# Altium integrated library IC - 74X Series Logic.IntLib: 56 symbols (part 2 of 2)
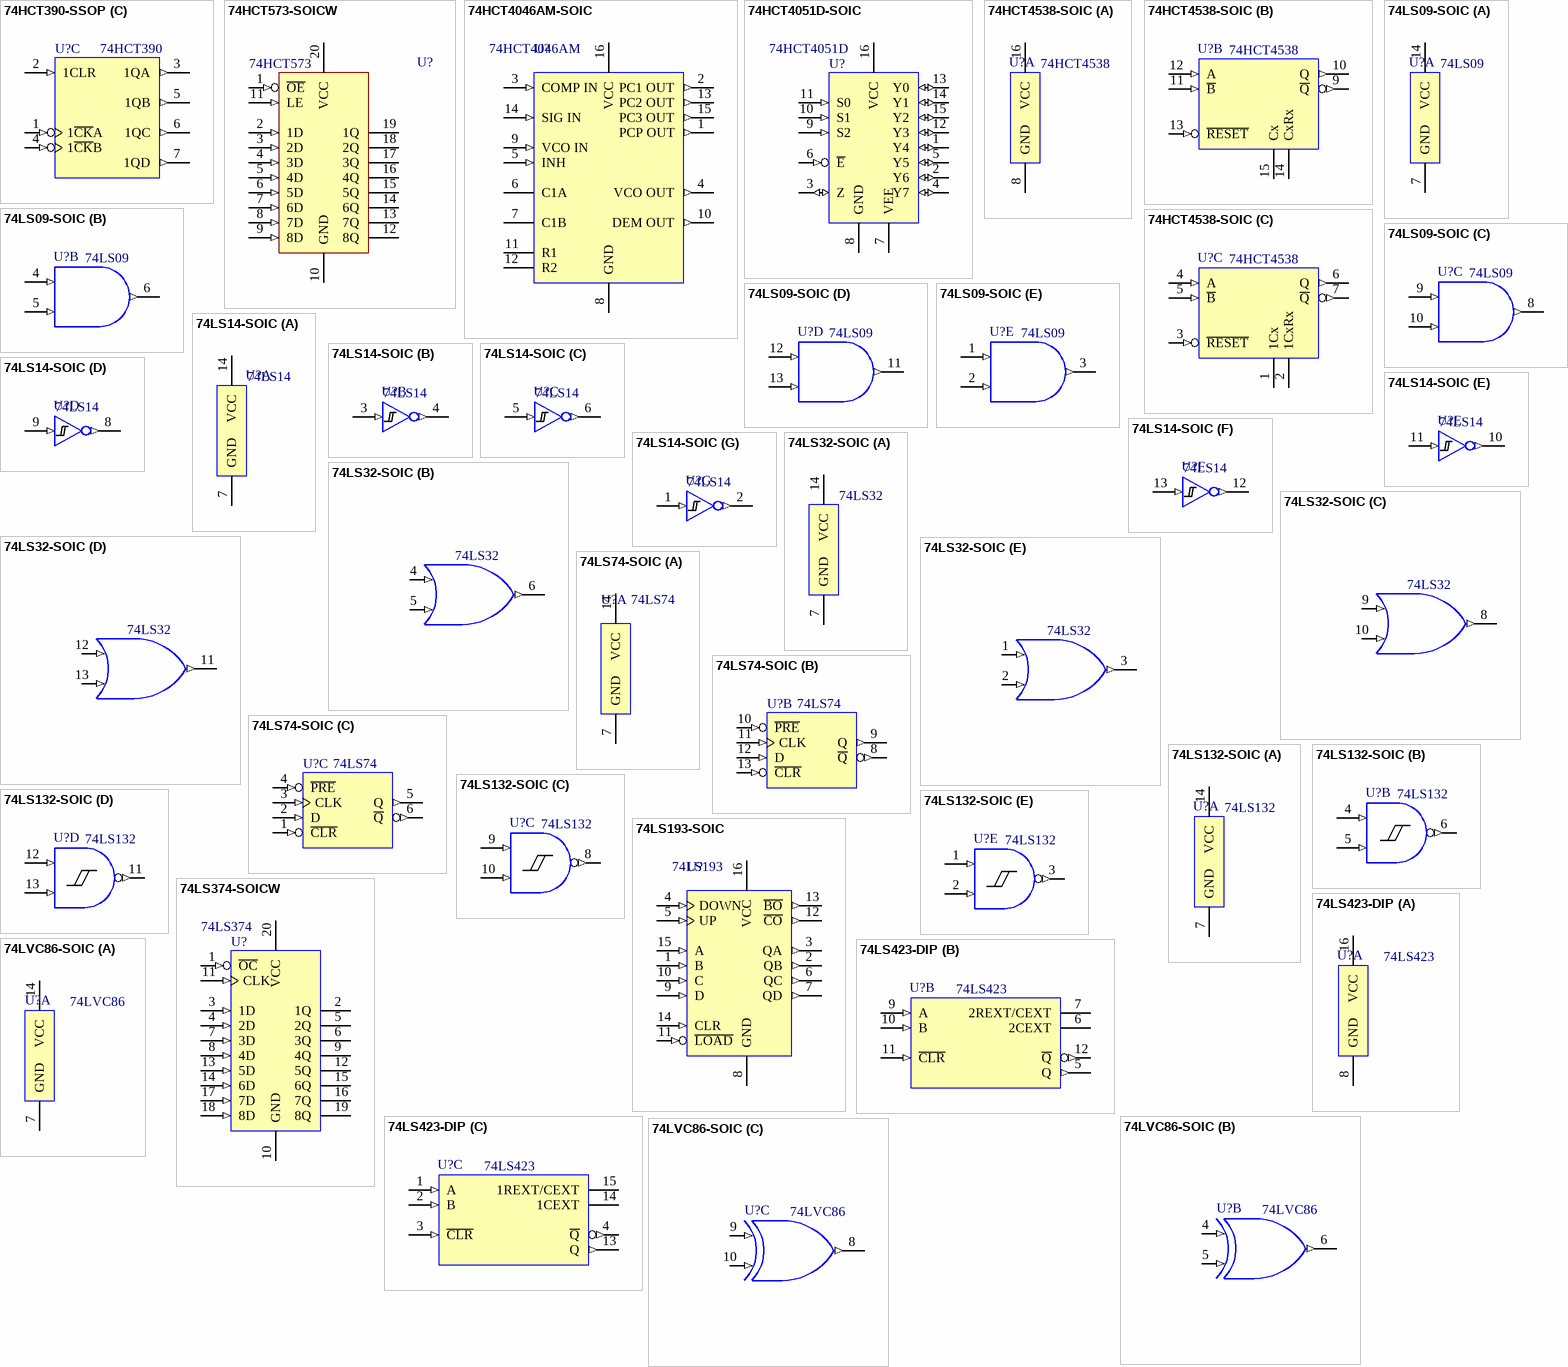
[diagram p5: symbols 74HCT390-SSOP to 74LVC86-SOIC]

## 74HCT4046AM-SOIC
designator U?, comment 74HCT4046AM
Phase Lock Loop with Voltage Controlled Oscillator (38MHz Max); Manufacturer: Texas Instruments/Fairchild Semiconductor/NXP Semiconductor; Supply Voltage: 4.5V~5.5V; Logic Level (High): -; Logic Level (Low): -; Logic Type: Phase Lock Loop; Max Propagation Delay: -; Output Current (High/Low): -; PackageDescription: SOIC, 16-Leads, Body 9.90x3.90mm, Pitch 1.27mm, IPC Low Density; Package Reference: SOIC-16; Supplier 1: Newark; Supplier Part Number 1: 34K2415; Supplier 2: Digi-Key; Supplier Part Number 2: 296-9275-5-ND; Supplier 3: Mouser; Supplier Part Number 3: 595-CD74HCT4046AM; ComponentLink1Description: Datasheet; Part Number: 74HCT4046AM
footprint SOIC-16 (SOIC, 16-Leads, Body 9.90x3.90mm, Pitch 1.27mm, IPC Low Density)
3D model SOIC-16 (PCB3D Model)
pins: 1 PCP OUT (out) "Phase Comparator Pulse Output", 2 PC1 OUT (out) "Phase Comparator 1 Output", 3 COMP IN (in) "Comparator Input", 4 VCO OUT (out) "VCO Output", 5 INH (in) "Inhibit Input", 6 C1A "Capacitor C1 connection A", 7 C1B "Capacitor C1 connection B", 8 GND (power), 9 VCO IN (in) "VCO Input", 10 DEM OUT (out) "Demodulator Output", 11 R1 "Resistor R1 Connection", 12 R2 "Resistor R2 Connection", 13 PC2 OUT (out) "Phase Comparator 2 Output", 14 SIG IN (in) "Signal Input", 15 PC3 OUT (out) "Phase Comparator 3 Output", 16 VCC (power)

## 74HCT4051D-SOIC
designator U?, comment 74HCT4051D
Phase Lock Loop with Voltage Controlled Oscillator (38MHz Max); Manufacturer: NXP Semiconductors; Logic Level (High): 1.2~4.7V; Logic Level (Low): 0.8V~4.3V; Logic Type: Multiplexer/Demultiplexer; Supply Voltage: 4.5V~5.5V/ ±1V~5.5V; Circuit: 1 x 8:1; Max Propagation Delay: -; Output Current (High/Low): -; PackageDescription: SOIC, 16-Leads, Body 9.90x3.90mm, Pitch 1.27mm, IPC Low Density; Package Reference: SOIC-16; Supplier 1: Digi-Key; Supplier Part Number 1: 568-1548-1-ND; Supplier 2: Newark; Supplier Part Number 2: 99K0559; Supplier 3: Mouser; Supplier Part Number 3: 771-74HCT4051D-T; Part Number: 74HCT4051D; ComponentLink1Description: Datasheet
footprint SOIC-16 (SOIC, 16-Leads, Body 9.90x3.90mm, Pitch 1.27mm, IPC Low Density)
3D model SOIC-16 (PCB3D Model)
pins: 1 Y4 (io) "Independent input/output Y4", 2 Y6 (io) "Independent input/output Y6", 3 Z (io) "Common Output/Input", 4 Y7 (io) "Independent input/output Y7", 5 Y5 (io) "Independent input/output Y5", 6 ~{E} (in) "Enable Input (active low)", 7 VEE (power), 8 GND (power), 9 S2 (in) "Select Input", 10 S1 (in) "Select Input", 11 S0 (in) "Select input", 12 Y3 (io) "Independent input/output Y3", 13 Y0 (io) "Independent input/output Y0", 14 Y1 (io) "Independent input/output Y1", 15 Y2 (io) "Independent input/output Y2", 16 VCC (power)

## 74HCT4538-SOIC
designator U?, comment 74HCT4538
Retriggerable monostable multivibrator with reset.  2 Element; Manufacturer: Texas Instruments/Fairchild Semiconductor/NXP Semiconductor; Supply Voltage: 4.5V~5.5V; Logic Level (Low): 0.8V (Max); Logic Level (High): 2.0V (Min); Max Propagation Delay: 23nS at 5V; Output Current (High/Low): 4mA/4mA; Logic Type: Monostable Multivibrator; PackageDescription: SOIC, 16-Leads, Body 9.90x3.90mm, Pitch 1.27mm, IPC Low Density; Package Reference: SOIC-16; Supplier 1: Mouser; Supplier Part Number 1: 595-CD74HCT4538M; Supplier 2: Newark; Supplier Part Number 2: 66F5423; Supplier 3: Digi-Key; Supplier Part Number 3: 296-9286-5-ND; Part Number: 74HCT4538; ComponentLink1Description: Datasheet
footprint SOIC-16 (SOIC, 16-Leads, Body 9.90x3.90mm, Pitch 1.27mm, IPC Low Density)
3D model SOIC-16 (PCB3D Model)
part A pins: 8 GND (power), 16 VCC (power)
part B pins: 9 ~{Q} (out), 10 Q (out), 11 ~{B} (in), 12 A (in), 13 ~{RESET} (in), 14 CxRx, 15 Cx
part C pins: 1 1Cx, 2 1CxRx, 3 ~{RESET} (in), 4 A (in), 5 ~{B} (in), 6 Q (out), 7 ~{Q} (out)

## 74LS09-SOIC
designator U?, comment 74LS09
2-input positive AND gate.  4 Element; Manufacturer: Texas Instruments/Fairchild Semiconductor/NXP Semiconductor; Supply Voltage: 4.75V~5.25V; Logic Level (Low): 0.8V; Logic Level (High): 2V; Max Propagation Delay: 32nS @ 5V; Output Current (High/Low): (Open Collector) -/8mA; Logic Type: AND Gate; PackageDescription: SOIC, 14-Leads, Body 8.65x3.90mm, Pitch 1.27mm, IPC Low Density; Package Reference: *; Supplier 1: Digi-Key; Supplier Part Number 1: 296-3630-5-ND; Supplier 2: Newark; Supplier Part Number 2: 35K0812; Supplier 3: TME; Supplier Part Number 3: 74LS09-SMD; Supplier 4: Mouser; Supplier Part Number 4: 595-SN74LS09D; Part Number: 74LS09; ComponentLink1Description: Datasheet
footprint SOIC-14 (SOIC, 14-Leads, Body 8.65x3.90mm, Pitch 1.27mm, IPC Low Density)
3D model SOIC-14 (PCB3D Model)
part A pins: 7 GND (power), 14 VCC (power)
part B pins: 4 (in), 5 (in), 6 (out)
part C pins: 8 (out), 9 (in), 10 (in)
part D pins: 11 (out), 12 (in), 13 (in)
part E pins: 1 (in), 2 (in), 3 (out)

## 74LS14-SOIC
designator U?, comment 74LS14
Hex Schmitt-Trigger Inverter, 6 Element; Manufacturer: Texas Instruments/Fairchild Semiconductor/NXP Semiconductor; Supply Voltage: 4.75V~5.25V; Max Propagation Delay: 22nS @ 5V; Logic Level (High): 1.5~2V; Logic Level (Low): 0.6~1.1V; Output Current (High/Low): -800uA/16mA; PackageDescription: SOIC, 14-Leads, Body 8.65x3.90mm, Pitch 1.27mm, IPC Low Density; Logic Type: Inverter; Package Reference: SOIC-14; Supplier 1: Digi-Key; Supplier Part Number 1: 296-1212-6-ND; Supplier 2: Mouser; Supplier Part Number 2: 595-SN74LS14DR; Supplier 3: Newark; Supplier Part Number 3: 76K1060; Part Number: 74LS14; ComponentLink1Description: Datasheet
footprint SOIC-14 (SOIC, 14-Leads, Body 8.65x3.90mm, Pitch 1.27mm, IPC Low Density)
3D model SOIC-14 (PCB3D Model)
part A pins: 7 GND (power), 14 VCC (power)
part B pins: 3 A (in), 4 Y (out)
part C pins: 5 A (in), 6 Y (out)
part D pins: 8 Y (out), 9 A (in)
part E pins: 10 Y (out), 11 A (in)
part F pins: 12 Y (out), 13 A (in)
part G pins: 1 A (in), 2 Y (out)

## 74LS32-SOIC
designator U?, comment 74LS32
2 input positive OR gate.  4 Element; Manufacturer: Texas Instruments/Fairchild Semiconductor/NXP Semiconductor; Logic Level (High): 2V; Logic Level (Low): 0.8V; Logic Type: OR Gate; Max Propagation Delay: 22nS @ 5V; Output Current (High/Low): -800uA/16mA; Supply Voltage: 4.75V~5.25V; PackageDescription: SOIC, 14-Leads, Body 8.65x3.90mm, Pitch 1.27mm, IPC Low Density; Package Reference: SOIC-14; Supplier 1: Digi-Key; Supplier Part Number 1: 296-14891-1-ND; Supplier 2: Mouser; Supplier Part Number 2: 595-SN74LS32DR; Supplier 3: Newark; Supplier Part Number 3: 76C3796; Part Number: 74LS32; ComponentLink1Description: Datasheet
footprint SOIC-14 (SOIC, 14-Leads, Body 8.65x3.90mm, Pitch 1.27mm, IPC Low Density)
3D model SOIC-14 (PCB3D Model)
part A pins: 7 GND (power), 14 VCC (power)
part B pins: 4 (in), 5 (in), 6 (out)
part C pins: 8 (out), 9 (in), 10 (in)
part D pins: 11 (out), 12 (in), 13 (in)
part E pins: 1 (in), 2 (in), 3 (out)

## 74LS74-SOIC
designator U?, comment 74LS74
D-Type positive edge triggered flip-flop w/ preset and clear.  2 Element; Manufacturer: Texas Instruments/Fairchild Semiconductor/NXP Semiconductor; Logic Level (High): 2V; Logic Level (Low): 0.8V; Logic Type: D-Type Flip Flop; Max Propagation Delay: 40ns @ 5V; Output Current (High/Low): -400uA, 16mA; Supply Voltage: 4.75V~5.25V; Output Type: Differential; PackageDescription: SOIC, 14-Leads, Body 8.65x3.90mm, Pitch 1.27mm, IPC Low Density; Package Reference: SOIC-14; Supplier 1: Newark; Supplier Part Number 1: 36K2048; Supplier 2: Mouser; Supplier Part Number 2: 595-SN74LS74AD; Supplier 3: Digi-Key; Supplier Part Number 3: 296-3743-5-ND; Part Number: 74LS74; ComponentLink1Description: Datasheet
footprint SOIC-14 (SOIC, 14-Leads, Body 8.65x3.90mm, Pitch 1.27mm, IPC Low Density)
3D model SOIC-14 (PCB3D Model)
part A pins: 7 GND (power), 14 VCC (power)
part B pins: 8 ~{Q} (out), 9 Q (out), 10 ~{PRE} (in), 11 CLK (in), 12 D (in), 13 ~{CLR} (in)
part C pins: 1 ~{CLR} (in), 2 D (in), 3 CLK (in), 4 ~{PRE} (in), 5 Q (out), 6 ~{Q} (out)

## 74LS132-SOIC
designator U?, comment 74LS132
2 Input Positive NAND gate, Schmitt Triggers.  4 Element; Manufacturer: Texas Instruments/Fairchild Semiconductor/NXP Semiconductor; Logic Level (High): 1.5~2V; Logic Level (Low): 0.5~1.1V; Max Propagation Delay: 22nS @ 5V; Output Current (High/Low): -0.8mA/16mA; Supply Voltage: 4.75V~5.25V; Logic Type: NAND Gate; PackageDescription: SOIC, 14-Leads, Body 8.65x3.90mm, Pitch 1.27mm, IPC Low Density; Package Reference: SOIC-14; Supplier 1: Newark; Supplier Part Number 1: 50R6515; Supplier 2: Digi-Key; Supplier Part Number 2: 296-3644-5-ND; Supplier 3: Mouser; Supplier Part Number 3: 595-SN74LS132D; Part Number: 74LS132; ComponentLink1Description: Datasheet
footprint SOIC-14 (SOIC, 14-Leads, Body 8.65x3.90mm, Pitch 1.27mm, IPC Low Density)
3D model SOIC-14 (PCB3D Model)
part A pins: 7 GND (power), 14 VCC (power)
part B pins: 4 (in), 5 (in), 6 (out)
part C pins: 8 (out), 9 (in), 10 (in)
part D pins: 11 (out), 12 (in), 13 (in)
part E pins: 1 (in), 2 (in), 3 (out)

## 74LS193-SOIC
designator U?, comment 74LS193
Presettable Synchronous 4 bit Binary up/down counter; Manufacturer: Texas Instruments/Fairchild Semiconductor/NXP Semiconductor; Logic Type: Binary Counter; Max Propagation Delay: 47ns at 5V; Output Current (High/Low): -0.4mA/16mA; Supply Voltage: 4.75V~5.25V; Logic Level (High): 2V; Logic Level (Low): 0.8V; PackageDescription: SOIC, 16-Leads, Body 9.90x3.90mm, Pitch 1.27mm, IPC Low Density; Package Reference: SOIC-16; Supplier 1: Newark; Supplier Part Number 1: 50R6533; Supplier 2: Digi-Key; Supplier Part Number 2: 296-3665-5-ND; Supplier 3: Mouser; Supplier Part Number 3: 595-SN74LS193D; Part Number: 74LS193; ComponentLink1Description: Datasheet
footprint SOIC-16 (SOIC, 16-Leads, Body 9.90x3.90mm, Pitch 1.27mm, IPC Low Density)
3D model SOIC-16 (PCB3D Model)
pins: 1 B (in), 2 QB (out), 3 QA (out), 4 DOWN (in), 5 UP (in), 6 QC (out), 7 QD (out), 8 GND (power), 9 D (in), 10 C (in), 11 ~{LOAD} (in), 12 ~{CO} (out), 13 ~{BO} (out), 14 CLR (in), 15 A (in), 16 VCC (power)

## 74LS374-SOICW
designator U?, comment Part Number: 74LS374  (hidden comment: 74LS374DW)
Octal D-Type positive edge triggered flip flop.  3 State.; Manufacturer: Texas Instruments/Fairchild Semiconductor/NXP Semiconductor; Logic Level (High): 2V; Logic Level (Low): 0.8V; Logic Type: D-Type Non Inverted; Max Propagation Delay: 28nS @ 5V; Output Current (High/Low): 2.6mA/24mA; Supply Voltage: 4.75V~5.25V; PackageDescription: SOIC, 20-Leads, Body 12.80x7.50mm, Pitch 1.27mm, IPC Low Density; Package Reference: SOIC-20-WIDE; Supplier 1: Mouser; Supplier Part Number 1: 595-SN74LS374DW; Supplier 2: Newark; Supplier Part Number 2: 08F7314; Supplier 3: Digi-Key; Supplier Part Number 3: 296-1661-5-ND; ComponentLink1Description: Datasheet
footprint SOIC-20-WIDE (SOIC, 20-Leads, Body 12.80x7.50mm, Pitch 1.27mm, IPC Low Density)
3D model SOIC_20-wide (PCB3D Model)
pins: 1 ~{OC} (in), 2 1Q (hiz), 3 1D (in), 4 2D (in), 5 2Q (hiz), 6 3Q (hiz), 7 3D (in), 8 4D (in), 9 4Q (hiz), 10 GND (power), 11 CLK (in), 12 5Q (hiz), 13 5D (in), 14 6D (in), 15 6Q (hiz), 16 7Q (hiz), 17 7D (in), 18 8D (in), 19 8Q (hiz), 20 VCC (power)

## 74LS423-DIP
designator U?, comment 74LS423
Retriggerable monostable multivibrator with clear.  2 Element; Manufacturer: Texas Instruments/Fairchild Semiconductor/NXP Semiconductor; Supply Voltage: 4.75V~5.25V; Logic Level (Low): 0.8V; Logic Level (High): 2V; Max Propagation Delay: 56nS; Output Current (High/Low): 400uA/8mA; Logic Type: Monostable Multivibrator; PackageDescription: DIP; 16 Trim Leads; Row Spacing 7.62 mm; Pitch 2.54 mm; Package Reference: DIP-16; Supplier 1: Digi-Key; Supplier Part Number 1: 296-3707-5-ND; Supplier 2: Mouser; Supplier Part Number 2: 595-SN74LS423N; Supplier 3: Newark; Supplier Part Number 3: 50R6570; Part Number: 74LS423; ComponentLink1Description: Datasheet
footprint DIP-16 (DIP; 16 Trim Leads; Row Spacing 7.62 mm; Pitch 2.54 mm)
3D model DIP-16 (PCB3D Model)
part A pins: 8 GND (power), 16 VCC (power)
part B pins: 5 Q (out), 6 2CEXT, 7 2REXT/CEXT, 9 A (in), 10 B (in), 11 ~{CLR} (in), 12 ~{Q} (out)
part C pins: 1 A (in), 2 B (in), 3 ~{CLR} (in), 4 ~{Q} (out), 13 Q (out), 14 1CEXT, 15 1REXT/CEXT

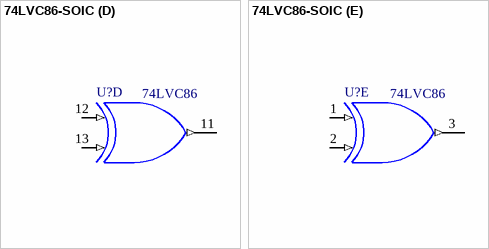
[diagram p4: symbol 74LVC86-SOIC]

## 74LVC86-SOIC
designator U?, comment 74LVC86
2-input XOR gate.  4 Element; Manufacturer: Texas Instruments/Fairchild Semiconductor/NXP Semiconductor; Logic Level (Low): 0.7V~0.8V; Logic Level (High): 1.7V~2V; Max Propagation Delay: 4.6nS @ 3.3V, 50pF; Output Current (High/Low): -24mA/24mA; Supply Voltage: 2.0V~3.6V; Logic Type: XOR; PackageDescription: SOIC, 14-Leads, Body 8.65x3.90mm, Pitch 1.27mm, IPC Low Density; Package Reference: SOIC-14; Supplier 1: Mouser; Supplier Part Number 1: 595-SN74LVC86ADR; Supplier 2: Digi-Key; Supplier Part Number 2: 296-14915-1-ND; Supplier 3: Newark; Supplier Part Number 3: 26M3360; Part Number: 74LVC86; ComponentLink1Description: Datasheet
footprint SOIC-14 (SOIC, 14-Leads, Body 8.65x3.90mm, Pitch 1.27mm, IPC Low Density)
3D model SOIC-14 (PCB3D Model)
part A pins: 7 GND (power), 14 VCC (power)
part B pins: 4 (in), 5 (in), 6 (out)
part C pins: 8 (out), 9 (in), 10 (in)
part D pins: 11 (out), 12 (in), 13 (in)
part E pins: 1 (in), 2 (in), 3 (out)